# EAGLE library part KEYPAD4X4 (library Keypad4x4_ECE)
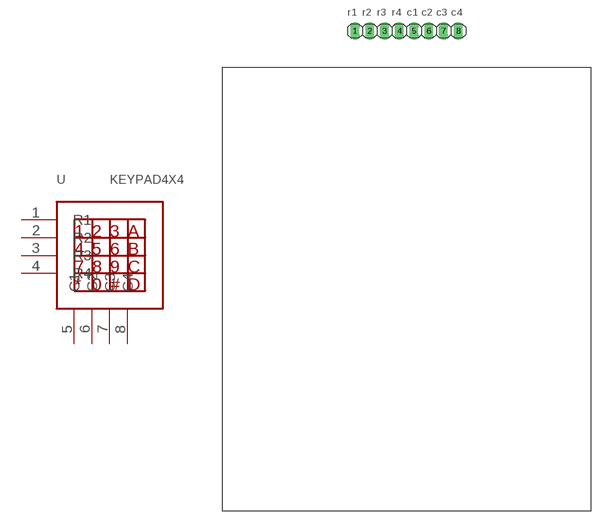
[diagram p0: symbol with the pads of KEYPAD4X4; footprint KEYPAD4X4]

Designator prefix -

## KEYPAD4X4  [KEYPAD4X4]
1  R1
2  R2
3  R3
4  R4
5  C1
6  C2
7  C3
8  C4

## Footprint KEYPAD4X4 (pad centres in mm)
drill 1.016 long: 1 -13.97,1.27; 2 -11.43,1.27; 3 -8.89,1.27; 4 -6.35,1.27; 5 -3.81,1.27; 6 -1.27,1.27; 7 1.27,1.27; 8 3.81,1.27